# Altium integrated library Diodes.IntLib: 35 symbols
Pins are listed as number, name and electrical type; pins without a type are passive.

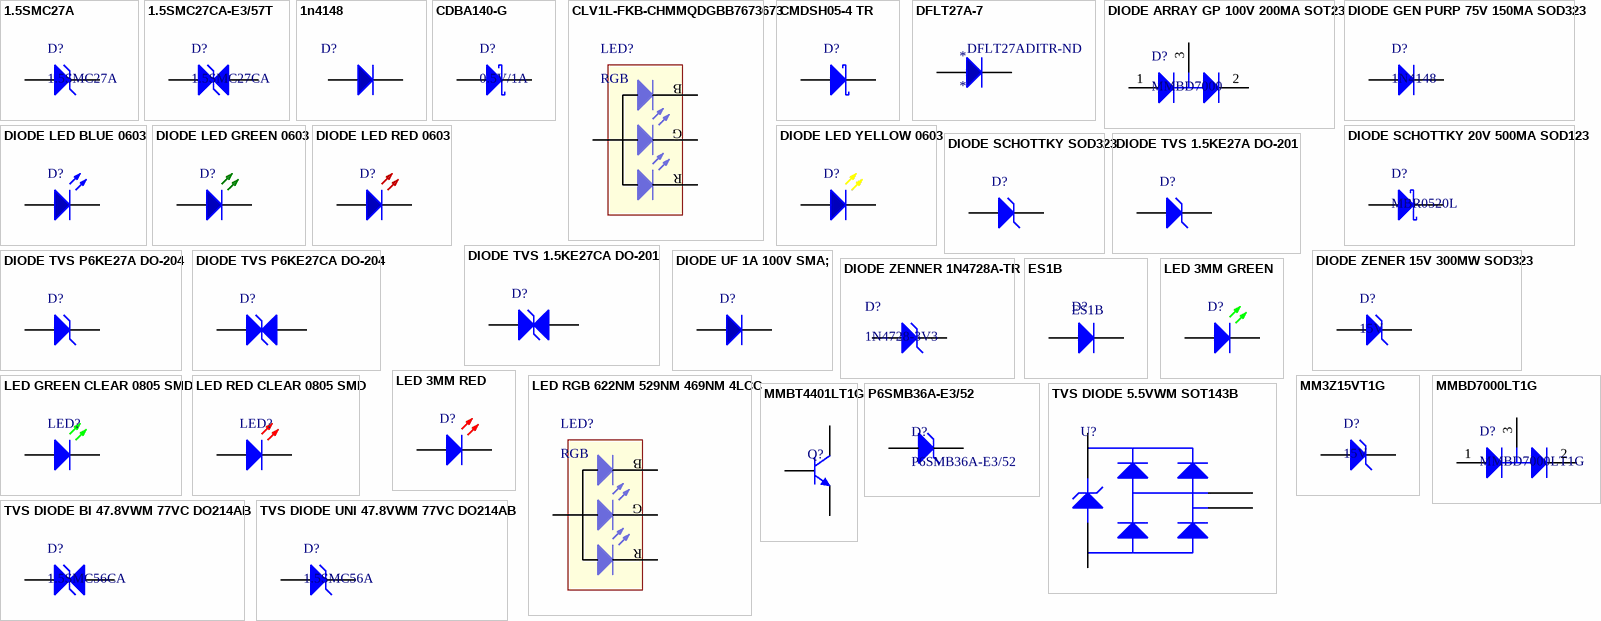
[diagram p0: symbols 1.5SMC27A to TVS DIODE UNI 47.8VWM 77VC DO214AB]

## 1.5SMC27A
designator D?
TVS DIODE 23.1VWM 37.5VC SMD; Manufacturer: Littelfuse Inc.; Type: Zener; Unidirectional Channels: 1; Voltage - Reverse Standoff (Typ): 23.1V; Voltage - Breakdown (Min): 25.7V; Voltage - Clamping (Max) @ Ipp: 37.5V; Current - Peak Pulse (10/1000µs): 40.5A; Power - Peak Pulse: 1500W (1.5kW); Power Line Protection: No; Supplier 1: Digi-Key; Manufacturer Part Number: 1.5SMC27A; RoHS: RoHS Compliant; Category: Circuit Protection; Stock 1: 5889; Pricing 1: 1=0.63, 10=0.556, 25=0.4912, 100=0.4281, 250=0.37268, 500=0.31724, 1000=0.2541 (USD); Packaging: Cut Tape (CT); Bidirectional Channels: -; Applications: General Purpose; Capacitance @ Frequency: -; Operating Temperature: -55°C ~ 150°C (TJ); Mounting Type: Surface Mount; Package / Case: DO-214AB, SMC; Supplier Device Package: DO-214AB (SMCJ); ComponentLink1URL: http://www.littelfuse.com/~/media/electronics/datasheets/tvs_diodes/littelfuse_tvs_diode_1_5smc_datasheet.pdf.pdf; ComponentLink1Description: http://www.littelfuse.com/~/media/electronics/datasheets/tvs_diodes/littelfuse_tvs_diode_1_5smc_datasheet.pdf.pdf; Supplier Part Number 1: 1.5SMC27ACT-ND
footprint DO-214AB (SMC) (DO-214AB)
pins: 1 A, 2 K

## 1.5SMC27CA-E3/57T
designator D?, comment 1.5SMC27CA
TVS DIODE 23.1VWM 37.5VC DO214AB; Manufacturer: Vishay Semiconductor Diodes Division; Manufacturer Part Number: 1.5SMC27CA-E3/57T; Type: Zener; Bidirectional Channels: 1; Voltage - Reverse Standoff (Typ): 23.1V; Voltage - Breakdown (Min): 25.7V; Voltage - Clamping (Max) @ Ipp: 37.5V; Current - Peak Pulse (10/1000µs): 40A; Power - Peak Pulse: 1500W (1.5kW); Power Line Protection: No; Supplier 1: Digi-Key; RoHS: RoHS Compliant; Category: Circuit Protection; Stock 1: 1668; Pricing 1: 1=0.62, 10=0.544, 25=0.5108, 100=0.4169, 250=0.38728 (USD); Packaging: Cut Tape (CT); Unidirectional Channels: -; Applications: General Purpose; Capacitance @ Frequency: -; Operating Temperature: -65°C ~ 150°C (TJ); Mounting Type: Surface Mount; Package / Case: DO-214AB, SMC; Supplier Device Package: DO-214AB (SMCJ); ComponentLink1URL: http://www.vishay.com/docs/88303/15smcseries.pdf; ComponentLink1Description: http://www.vishay.com/docs/88303/15smcseries.pdf; Supplier Part Number 1: 1.5SMC27CA-E3/57TGICT-ND
footprint DO-214AB_BIDIR (SMC) (DO-214AB)
pins: 1 A, 2 K

## 1n4148
designator D?  (value not drawn)
DIODE GEN PURP 75V 150MA SOD123; Manufacturer: Vishay Semiconductor Diodes Division; Manufacturer Part Number: 1N4148W-E3-08; Diode Type: Standard; Voltage - Forward (Vf) (Max) @ If: 1.2V @ 100mA; Speed: Small Signal =< 200mA (Io), Any Speed; Reverse Recovery Time (trr): 4ns; Current - Reverse Leakage @ Vr: 100µA @ 100V; Capacitance @ Vr, F: 4pF @ 0V, 1MHz; Supplier 1: Digi-Key; RoHS: RoHS Compliant; Category: Discrete Semiconductor Products; Stock 1: 32600; Pricing 1: 1=0.23, 10=0.188, 25=0.1576, 100=0.0998, 250=0.07704, 500=0.06566, 1000=0.04465 (USD); Packaging: Cut Tape (CT); Part Status: Active; Voltage - DC Reverse (Vr) (Max): 75V; Current - Average Rectified (Io): 150mA; Mounting Type: Surface Mount; Package / Case: SOD-123; Supplier Device Package: SOD-123; Operating Temperature - Junction: 150°C (Max); ComponentLink1URL: http://www.vishay.com/docs/85748/1n4148w.pdf; ComponentLink1Description: http://www.vishay.com/docs/85748/1n4148w.pdf; Supplier Part Number 1: 1N4148W-E3-08CT-ND
footprint SOD-123
pins: 1, 2

## CDBA140-G
designator D?, comment 0.5V/1A
DIODE SCHOTTKY 40V 1A DO214AC; Manufacturer: Comchip Technology; Manufacturer Part Number: CDBA140-G; Voltage - Forward (Vf) (Max) @ If: 500mV @ 1A; Speed: Fast Recovery =< 500ns, > 200mA (Io); Current - Reverse Leakage @ Vr: 500µA @ 40V; Supplier 1: Digi-Key; RoHS: RoHS Compliant; Category: Discrete Semiconductor Products; Stock 1: 130852; Pricing 1: 1=0.37, 10=0.335, 25=0.2412, 100=0.1875, 250=0.11784, 500=0.10042, 1000=0.06829, 2500=0.0616 (USD); Packaging: Digi-Reel®; Diode Type: Schottky; Voltage - DC Reverse (Vr) (Max): 40V; Current - Average Rectified (Io): 1A; Reverse Recovery Time (trr): -; Capacitance @ Vr, F: -; Mounting Type: Surface Mount; Package / Case: DO-214AC, SMA; Supplier Device Package: DO-214AC (SMA); Operating Temperature - Junction: -65°C ~ 125°C; ComponentLink1URL: http://www.comchiptech.com/cms/UserFiles/CDBA120-G%20Thru934256.%20CDBA1100-G%20RevC.pdf; ComponentLink1Description: http://www.comchiptech.com/cms/UserFiles/CDBA120-G%20Thru934256.%20CDBA1100-G%20RevC.pdf; Supplier Part Number 1: 641-1015-6-ND
footprint DO-214AC (SMA)
pins: 1 A, 2 K

## CLV1L-FKB-CHMMQDGBB7673673
designator LED?, comment RGB
LED RGB 622NM 529NM 469NM 4LCC; Manufacturer: Cree Inc.; Manufacturer Part Number: CLV1L-FKB-CHMMQDGBB7673673; Color: Red, Green, Blue (RGB); Millicandela Rating: 628mcd Red, 1255mcd Green, 248mcd Blue; Lens Style/Size: Round with Flat Top; Voltage - Forward (Vf) (Typ): 2V Red, 3.2V Green, 3.2V Blue; Current - Test: 20mA Red, 15mA Green, 15mA Blue; Wavelength - Dominant: 622nm Red, 529nm Green, 469nm Blue; Supplier 1: Digi-Key; RoHS: RoHS Compliant; Category: Optoelectronics; Stock 1: 0; Pricing 1: 2000=0.185 (USD); Packaging: Tape & Reel (TR); Lens Color: -; Lens Transparency: -; Viewing Angle: -; Mounting Type: Surface Mount; Wavelength - Peak: -; Features: -; Package / Case: 4-LCC (J-Lead); Supplier Device Package: 4-PLCC; Size / Dimension: 3.20mm L x 2.80mm W; Height (Max): 2.10mm; ComponentLink1URL: http://www.cree.com/~/media/Files/Cree/LED-Components-and-Modules/HB/Data-Sheets/CLV1L-FKB-1238.pdf; ComponentLink1Description: http://www.cree.com/~/media/Files/Cree/LED-Components-and-Modules/HB/Data-Sheets/CLV1L-FKB-1238.pdf; Supplier Part Number 1: CLV1L-FKB-CHMMQDGBB7673673-ND
footprint PLCC-4
pins: 1 A, 2 R-, 3 G-, 4 B-
text: B; G; R

## CMDSH05-4 TR
designator D?  (value not drawn)
Schottky Diodes & Rectifiers 40V Low Vf Schottky 500mA If 250mW; Manufacturer: Central Semiconductor; Ifsm - Forward Surge Current: 10 A; Tj - Operating Junction Temperature: - 65 C to + 150 C; Vf - Forward Voltage: 0.47 V; Product Status: New Product; Value: 0.5A/40V; Supplier 1: Mouser; Manufacturer Part Number: CMDSH05-4 TR; RoHS: RoHS Compliant; Category: Schottky Diodes & Rectifiers; Stock 1: 6344; Pricing 1: 1=0.564, 10=0.483, 100=0.254, 1000=0.227, 3000=0.193, 9000=0.181, 24000=0.171, 45000=0.168, 99000=0.160 (AUD); Package / Case: SOD-323; Packaging: Reel; Product: Schottky Diodes; Series: CMDSH05; Technology: Si; Brand: Central Semiconductor; Mounting Style: SMD/SMT; If - Forward Current: 500 mA; Maximum Operating Temperature: + 150 C; Minimum Operating Temperature: - 65 C; Pd - Power Dissipation: 250 mW; Tradename: Supermini; Vrrm - Repetitive Reverse Voltage: 40 V; RoHS - Mouser: Y; Minimum Order Quantity: 1; Reeling: True; ComponentLink1URL: http://www.mouser.com/ds/2/68/CMDSH05-4-370554.pdf; ComponentLink1Description: http://www.mouser.com/ds/2/68/CMDSH05-4-370554.pdf; Supplier Part Number 1: 610-CMDSH05-4TR
footprint SOD323
pins: 1 A, 2 K

## DFLT27A-7
designator *  Supplier Part Number 1: DFLT27ADITR-ND
TVS DIODE 27VWM POWERDI123; Manufacturer: Diodes Incorporated; Manufacturer Part Number: DFLT27A-7; Voltage - Reverse Standoff (Typ): 27V; Voltage - Breakdown (Min): 30V; Voltage - Clamping (Max) @ Ipp: 43.7V; Current - Peak Pulse (10/1000µs): 5.15A; Power - Peak Pulse: 225W; Power Line Protection: No; Supplier 1: Digi-Key; RoHS: RoHS Compliant; Category: Circuit Protection; Stock 1: 15000; Pricing 1: 3000=0.2046, 6000=0.1914, 15000=0.1782, 30000=0.16896 (USD); Packaging: Tape & Reel (TR); Part Status: Active; Type: Zener; Applications: Automotive; Capacitance @ Frequency: -; Operating Temperature: -65°C ~ 150°C (TJ); Mounting Type: Surface Mount; Package / Case: POWERDI®123; Supplier Device Package: PowerDI™ 123; ComponentLink1URL: https://www.diodes.com/assets/Datasheets/ds30581.pdf; ComponentLink1Description: https://www.diodes.com/assets/Datasheets/ds30581.pdf
footprint SOD-123
pins: 1, 2

## DIODE ARRAY GP 100V 200MA SOT23
designator D?, comment MMBD7000
DIODE ARRAY GP 100V 200MA SOT23; Manufacturer: ON Semiconductor; Manufacturer Part Number: MMBD7000LT1G; Diode Configuration: 1 Pair Series Connection; Diode Type: Standard; Current - Average Rectified (Io) (per Diode): 200mA (DC); Voltage - Forward (Vf) (Max) @ If: 1.1V @ 100mA; Speed: Small Signal =< 200mA (Io), Any Speed; Reverse Recovery Time (trr): 4ns; Current - Reverse Leakage @ Vr: 3µA @ 100V; Supplier 1: Digi-Key; RoHS: RoHS Compliant; Category: Discrete Semiconductor Products; Stock 1: 116635; Pricing 1: 1=0.13, 10=0.115, 100=0.0626, 500=0.0385, 1000=0.02627 (USD); Packaging: Cut Tape (CT); Voltage - DC Reverse (Vr) (Max): 100V; Mounting Type: Surface Mount; Package / Case: TO-236-3, SC-59, SOT-23-3; Supplier Device Package: SOT-23-3 (TO-236); ComponentLink1URL: http://www.onsemi.com/pub_link/Collateral/MMBD7000LT1-D.PDF; ComponentLink1Description: http://www.onsemi.com/pub_link/Collateral/MMBD7000LT1-D.PDF; Supplier Part Number 1: MMBD7000LT1GOSCT-ND
footprint SOT23-3 N (SOT23, 3-Leads, Body 2.9x1.3mm, Pitch 0.95mm, Lead Span 2.5mm, IPC Medium Density)
pins: 1 A, 2 K, 3 K/A

## DIODE GEN PURP 75V 150MA SOD323
designator D?, comment 1N4148
DIODE GEN PURP 75V 150MA SOD323; Manufacturer: Micro Commercial Co; Manufacturer Part Number: 1N4148WX-TP; Diode Type: Standard; Voltage - Forward (Vf) (Max) @ If: 1V @ 50mA; Speed: Small Signal =< 200mA (Io), Any Speed; Reverse Recovery Time (trr): 4ns; Current - Reverse Leakage @ Vr: 5µA @ 75V; Supplier 1: Digi-Key; RoHS: RoHS Compliant; Category: Discrete Semiconductor Products; Stock 1: 432445; Pricing 1: 1=0.14, 10=0.125, 25=0.1132, 100=0.0815, 250=0.048, 500=0.03986, 1000=0.02718 (USD); Packaging: Cut Tape (CT); Part Status: Active; Voltage - DC Reverse (Vr) (Max): 75V; Current - Average Rectified (Io): 150mA; Capacitance @ Vr, F: -; Mounting Type: Surface Mount; Package / Case: SC-76, SOD-323; Supplier Device Package: SOD-323; Operating Temperature - Junction: -55°C ~ 150°C; ComponentLink1URL: http://www.mccsemi.com/up_pdf/1N4148WX(SOD323).pdf; ComponentLink1Description: http://www.mccsemi.com/up_pdf/1N4148WX(SOD323).pdf; Supplier Part Number 1: 1N4148WXTPMSCT-ND
footprint SOD323 N (SODFL, 2-Leads, Body 1,25x2,50mm, IPC Medium Density)
pins: 1 A, 2 K

## DIODE LED BLUE 0603
designator D?  (value not drawn)
LED BLUE CLEAR 0603 SMD; Manufacturer: Wurth Electronics Inc; Manufacturer Part Number: 150060BS75000; Lens Color: Colorless; Millicandela Rating: 145mcd; Lens Style/Size: Rectangle with Flat Top, 1.10mm x 0.70mm; Voltage - Forward (Vf) (Typ): 3.2V; Current - Test: 20mA; Viewing Angle: 140°; Wavelength - Dominant: 470nm; Wavelength - Peak: 465nm; Supplier 1: Digi-Key; RoHS: RoHS Compliant; Category: Optoelectronics; Stock 1: 14835; Pricing 1: 1=0.26, 50=0.2276, 100=0.208, 500=0.1885, 1000=0.1755 (USD); Packaging: Cut Tape (CT); Color: Blue; Lens Transparency: Clear; Mounting Type: Surface Mount; Features: -; Package / Case: 0603 (1608 Metric); Supplier Device Package: 0603; Size / Dimension: 1.60mm L x 0.80mm W; Height (Max): 0.80mm; ComponentLink1URL: http://katalog.we-online.de/led/datasheet/150060BS75000.pdf; ComponentLink1Description: http://katalog.we-online.de/led/datasheet/150060BS75000.pdf; Supplier Part Number 1: 732-4966-1-ND
footprint LED-0603-BLUE
pins: 1, 2

## DIODE LED GREEN 0603
designator D?  (value not drawn)
LED GREEN CLEAR 0603 SMD; Manufacturer: Wurth Electronics Inc; Manufacturer Part Number: 150060GS75000; Lens Color: Colorless; Millicandela Rating: 430mcd; Lens Style/Size: Rectangle with Flat Top, 1.10mm x 0.70mm; Voltage - Forward (Vf) (Typ): 3.2V; Current - Test: 20mA; Viewing Angle: 140°; Wavelength - Dominant: 520nm; Wavelength - Peak: 515nm; Supplier 1: Digi-Key; RoHS: RoHS Compliant; Category: Optoelectronics; Stock 1: 18581; Pricing 1: 1=0.24, 50=0.21, 100=0.192, 500=0.174, 1000=0.162 (USD); Packaging: Digi-Reel®; Color: Green; Lens Transparency: Clear; Mounting Type: Surface Mount; Features: -; Package / Case: 0603 (1608 Metric); Supplier Device Package: 0603; Size / Dimension: 1.60mm L x 0.80mm W; Height (Max): 0.80mm; ComponentLink1URL: http://katalog.we-online.de/led/datasheet/150060GS75000.pdf; ComponentLink1Description: http://katalog.we-online.de/led/datasheet/150060GS75000.pdf; Supplier Part Number 1: 732-4971-6-ND
footprint LED-0603-GREEN
pins: 1, 2

## DIODE LED RED 0603
designator D?  (value not drawn)
LED RED CLEAR 0603 SMD; Manufacturer: Wurth Electronics Inc; Manufacturer Part Number: 150060RS75000; Lens Color: Colorless; Millicandela Rating: 250mcd; Lens Style/Size: Rectangle with Flat Top, 1.10mm x 0.70mm; Voltage - Forward (Vf) (Typ): 2V; Current - Test: 20mA; Viewing Angle: 140°; Wavelength - Dominant: 625nm; Wavelength - Peak: 630nm; Supplier 1: Digi-Key; RoHS: RoHS Compliant; Category: Optoelectronics; Stock 1: 22583; Pricing 1: 1=0.24, 50=0.21, 100=0.192, 500=0.174, 1000=0.162 (USD); Packaging: Cut Tape (CT); Color: Red; Lens Transparency: Clear; Mounting Type: Surface Mount; Features: -; Package / Case: 0603 (1608 Metric); Supplier Device Package: 0603; Size / Dimension: 1.60mm L x 0.80mm W; Height (Max): 0.80mm; ComponentLink1URL: http://katalog.we-online.de/led/datasheet/150060RS75000.pdf; ComponentLink1Description: http://katalog.we-online.de/led/datasheet/150060RS75000.pdf; Supplier Part Number 1: 732-4978-1-ND
footprint LED-0603-RED
pins: 1, 2

## DIODE LED YELLOW 0603
designator D?  (value not drawn)
LED YELLOW CLEAR 0603 SMD; Manufacturer: Wurth Electronics Inc; Manufacturer Part Number: 150060YS75000; Lens Color: Colorless; Millicandela Rating: 120mcd; Lens Style/Size: Rectangle with Flat Top, 1.10mm x 0.70mm; Voltage - Forward (Vf) (Typ): 2V; Current - Test: 20mA; Viewing Angle: 140°; Wavelength - Dominant: 590nm; Wavelength - Peak: 595nm; Supplier 1: Digi-Key; RoHS: RoHS Compliant; Category: Optoelectronics; Stock 1: 17900; Pricing 1: 1=0.24, 50=0.21, 100=0.192, 500=0.174, 1000=0.162 (USD); Packaging: Cut Tape (CT); Color: Yellow; Lens Transparency: Clear; Mounting Type: Surface Mount; Features: -; Package / Case: 0603 (1608 Metric); Supplier Device Package: 0603; Size / Dimension: 1.60mm L x 0.80mm W; Height (Max): 0.80mm; ComponentLink1URL: http://katalog.we-online.de/led/datasheet/150060YS75000.pdf; ComponentLink1Description: http://katalog.we-online.de/led/datasheet/150060YS75000.pdf; Supplier Part Number 1: 732-4981-1-ND
footprint LED-0603-YELLOW
pins: 1, 2

## DIODE SCHOTTKY 20V 500MA SOD123
designator D?, comment MBR0520L
DIODE SCHOTTKY 20V 500MA SOD123; Manufacturer: Fairchild Semiconductor; Rad Hard: No; Type: Schottky Diode; Configuration: Single; Peak Average Forward Current: 0.5 A; Peak Reverse Current: 250 uA; Peak Forward Voltage: 0.385 V; Peak Non-Repetitive Surge Current: 5.5 A; Supplier 1: Digikey; Manufacturer Part Number: MBR0520L; Stock 1: 138987; Pricing 1: 1=0.34, 10=0.281, 100=0.1491, 500=0.0981, 1000=0.0667 (USD); Packaging: Tape & Reel; Package: 2SOD-123; Peak Reverse Repetitive Voltage: 20 V; Operating Temperature: -65 to 125 °C; Mounting: Surface Mount; Category: Rectifier; ComponentLink1URL: https://datasheet.ciiva.com/5739/1684450-5739282.pdf; ComponentLink1Description: https://datasheet.ciiva.com/5739/1684450-5739282.pdf; ComponentLink2URL: https://datasheet.ciiva.com/4714/mbr0520l-67539-4714709.pdf; ComponentLink2Description: https://datasheet.ciiva.com/4714/mbr0520l-67539-4714709.pdf; ComponentLink3URL: https://datasheet.ciiva.com/910/mbr0520l-910540.pdf; ComponentLink3Description: https://datasheet.ciiva.com/910/mbr0520l-910540.pdf; ComponentLink4URL: https://datasheet.ciiva.com/8303/mbr0520l-8303788.pdf; ComponentLink4Description: https://datasheet.ciiva.com/8303/mbr0520l-8303788.pdf; ComponentLink5URL: https://datasheet.ciiva.com/26230/mbr0520l-26230988.pdf; ComponentLink5Description: https://datasheet.ciiva.com/26230/mbr0520l-26230988.pdf; ComponentLink6URL: https://datasheet.ciiva.com/34301/871594-34301628.pdf; ComponentLink6Description: https://datasheet.ciiva.com/34301/871594-34301628.pdf; ComponentLink7URL: https://datasheet.ciiva.com/910/mbr0520l-910541.pdf; ComponentLink7Description: https://datasheet.ciiva.com/910/mbr0520l-910541.pdf; ComponentLink8URL: https://datasheet.ciiva.com/16985/mbr0520l-16985725.pdf; ComponentLink8Description: https://datasheet.ciiva.com/16985/mbr0520l-16985725.pdf; ComponentLink9URL: https://datasheet.ciiva.com/910/mbr0520l-910542.pdf; ComponentLink9Description: https://datasheet.ciiva.com/910/mbr0520l-910542.pdf; ComponentLink10URL: https://datasheet.ciiva.com/7965/48015-7965151.pdf; ComponentLink10Description: https://datasheet.ciiva.com/7965/48015-7965151.pdf; Supplier Part Number 1: MBR0520LCT-ND
footprint SOD123 M (SODFL, 2-Leads, Body 1,60x3,75mm, IPC Low Density)
pins: 1 K, 2 A

## DIODE SCHOTTKY SOD323
designator D?  (value not drawn)
DIODE SCHOTTKY 40V 30MA SOD323; Manufacturer: ON Semiconductor; Manufacturer Part Number: NSVRB751V40T1G; Current - Average Rectified (Io): 30mA (DC); Voltage - Forward (Vf) (Max) @ If: 370mV @ 1mA; Speed: Small Signal =< 200mA (Io), Any Speed; Current - Reverse Leakage @ Vr: 500nA @ 30V; Capacitance @ Vr, F: 2.5pF @ 1V, 1MHz; Supplier 1: Digi-Key; RoHS: RoHS Compliant; Category: Discrete Semiconductor Products; Stock 1: 4486; Pricing 1: 1=0.43, 10=0.346, 100=0.236, 500=0.1766, 1000=0.13228 (USD); Packaging: Cut Tape (CT); Diode Type: Schottky; Voltage - DC Reverse (Vr) (Max): 40V; Reverse Recovery Time (trr): -; Mounting Type: Surface Mount; Package / Case: SC-76, SOD-323; Supplier Device Package: SOD-323; Operating Temperature - Junction: -55°C ~ 150°C; ComponentLink1URL: http://www.onsemi.com/pub_link/Collateral/RB751V40T1-D.PDF; ComponentLink1Description: http://www.onsemi.com/pub_link/Collateral/RB751V40T1-D.PDF; Supplier Part Number 1: NSVRB751V40T1GOSCT-ND
footprint SOD-323
pins: 1, 2

## DIODE TVS 1.5KE27A DO-201
designator D?  (value not drawn)
TVS DIODE 23.1VWM 48.3VC DO201; Manufacturer: STMicroelectronics; Manufacturer Part Number: 1.5KE27A; Type: Zener; Unidirectional Channels: 1; Voltage - Reverse Standoff (Typ): 23.1V; Voltage - Breakdown (Min): 25.7V; Voltage - Clamping (Max) @ Ipp: 48.3V; Current - Peak Pulse (10/1000µs): 207A (8/20µs); Power - Peak Pulse: 1500W (1.5kW); Power Line Protection: No; Capacitance @ Frequency: 3200pF @ 1MHz; Supplier 1: Digi-Key; RoHS: RoHS Compliant; Category: Circuit Protection; Stock 1: 2247; Pricing 1: 1=0.63, 10=0.538, 100=0.4017 (USD); Packaging: Cut Tape (CT); Bidirectional Channels: -; Applications: General Purpose; Operating Temperature: -; Mounting Type: Through Hole; Package / Case: DO-201AA, DO-27, Axial; Supplier Device Package: DO-201; ComponentLink1URL: http://www.st.com/content/ccc/resource/technical/document/datasheet/03/7a/4e/3b/96/c3/4e/37/CD00000663.pdf/files/CD00000663.pdf/jcr:content/translations/en.CD00000663.pdf; ComponentLink1Description: http://www.st.com/content/ccc/resource/technical/document/datasheet/03/7a/4e/3b/96/c3/4e/37/CD00000663.pdf/files/CD00000663.pdf/jcr:content/translations/en.CD00000663.pdf; Supplier Part Number 1: 497-12739-1-ND
footprint DO-201
pins: 1, 2

## DIODE TVS 1.5KE27CA DO-201
designator D?  (value not drawn)
TVS DIODE 23.1VWM 37.5VC AXIAL; Manufacturer: Littelfuse Inc.; Manufacturer Part Number: 1.5KE27CA; Type: Zener; Bidirectional Channels: 1; Voltage - Reverse Standoff (Typ): 23.1V; Voltage - Breakdown (Min): 25.7V; Voltage - Clamping (Max) @ Ipp: 37.5V; Current - Peak Pulse (10/1000µs): 40.5A; Power - Peak Pulse: 1500W (1.5kW); Power Line Protection: No; Supplier 1: Digi-Key; RoHS: RoHS Compliant; Category: Circuit Protection; Stock 1: 1648; Pricing 1: 1=0.65, 10=0.567, 25=0.5008, 100=0.4365, 250=0.37996, 500=0.32342 (USD); Packaging: Cut Tape (CT); Unidirectional Channels: -; Applications: General Purpose; Capacitance @ Frequency: -; Operating Temperature: -55°C ~ 175°C (TJ); Mounting Type: Through Hole; Package / Case: DO-201AA, DO-27, Axial; Supplier Device Package: DO-201; ComponentLink1URL: http://www.littelfuse.com/~/media/electronics/datasheets/tvs_diodes/littelfuse_tvs_diode_1_5ke_datasheet.pdf.pdf; ComponentLink1Description: http://www.littelfuse.com/~/media/electronics/datasheets/tvs_diodes/littelfuse_tvs_diode_1_5ke_datasheet.pdf.pdf; Supplier Part Number 1: 1.5KE27CALFCT-ND
footprint DO-201
pins: 1, 2

## DIODE TVS P6KE27A DO-204
designator D?  (value not drawn)
TVS DIODE 23.1VWM 48.3VC DO15; Manufacturer: STMicroelectronics; Manufacturer Part Number: P6KE27A; Type: Zener; Unidirectional Channels: 1; Voltage - Reverse Standoff (Typ): 23.1V; Voltage - Breakdown (Min): 25.7V; Voltage - Clamping (Max) @ Ipp: 48.3V; Current - Peak Pulse (10/1000µs): 83A (8/20µs); Power - Peak Pulse: 600W; Power Line Protection: No; Capacitance @ Frequency: 1150pF @ 1MHz; Supplier 1: Digi-Key; RoHS: RoHS Compliant; Category: Circuit Protection; Stock 1: 5491; Pricing 1: 1=0.51, 10=0.416, 100=0.2838, 500=0.21242 (USD); Packaging: Cut Tape (CT); Bidirectional Channels: -; Applications: General Purpose; Operating Temperature: -; Mounting Type: Through Hole; Package / Case: DO-204AC, DO-15, Axial; Supplier Device Package: DO-15; ComponentLink1URL: http://www.st.com/web/en/resource/technical/document/datasheet/CD00000720.pdf; ComponentLink1Description: http://www.st.com/web/en/resource/technical/document/datasheet/CD00000720.pdf; Supplier Part Number 1: 497-11386-1-ND
footprint DO-204
pins: 1, 2

## DIODE TVS P6KE27CA DO-204
designator D?  (value not drawn)
TVS DIODE 23.1VWM 48.3VC DO15; Manufacturer: STMicroelectronics; Manufacturer Part Number: P6KE27CA; Type: Zener; Bidirectional Channels: 1; Voltage - Reverse Standoff (Typ): 23.1V; Voltage - Breakdown (Min): 25.7V; Voltage - Clamping (Max) @ Ipp: 48.3V; Current - Peak Pulse (10/1000µs): 83A (8/20µs); Power - Peak Pulse: 600W; Power Line Protection: No; Capacitance @ Frequency: 575pF @ 1MHz; Supplier 1: Digi-Key; RoHS: RoHS Compliant; Category: Circuit Protection; Stock 1: 4106; Pricing 1: 1=0.51, 10=0.416, 100=0.2838, 500=0.21242 (USD); Packaging: Cut Tape (CT); Unidirectional Channels: -; Applications: General Purpose; Operating Temperature: -; Mounting Type: Through Hole; Package / Case: DO-204AC, DO-15, Axial; Supplier Device Package: DO-15; ComponentLink1URL: http://www.st.com/web/en/resource/technical/document/datasheet/CD00000720.pdf; ComponentLink1Description: http://www.st.com/web/en/resource/technical/document/datasheet/CD00000720.pdf; Supplier Part Number 1: 497-11387-1-ND
footprint DO-204
pins: 1, 2

## DIODE UF 1A 100V SMA;
designator D?  (value not drawn)
DIODE GEN PURP 100V 1A DO220AA; Manufacturer: Vishay Semiconductor Diodes Division; Manufacturer Part Number: ES1PB-M3/84A; Diode Type: Standard; Voltage - Forward (Vf) (Max) @ If: 920mV @ 1A; Speed: Fast Recovery =< 500ns, > 200mA (Io); Reverse Recovery Time (trr): 25ns; Current - Reverse Leakage @ Vr: 5µA @ 100V; Capacitance @ Vr, F: 10pF @ 4V, 1MHz; Supplier 1: Digi-Key; RoHS: RoHS Compliant; Category: Discrete Semiconductor Products; Stock 1: 8556; Pricing 1: 1=0.44, 10=0.373, 25=0.3484, 100=0.2786, 250=0.25872, 500=0.2189, 1000=0.16915 (USD); Packaging: Cut Tape (CT); Voltage - DC Reverse (Vr) (Max): 100V; Current - Average Rectified (Io): 1A; Mounting Type: Surface Mount; Package / Case: DO-220AA; Supplier Device Package: DO-220AA (SMP); Operating Temperature - Junction: -55°C ~ 150°C; ComponentLink1URL: http://www.vishay.com/docs/88918/es1pb.pdf; ComponentLink1Description: http://www.vishay.com/docs/88918/es1pb.pdf; Supplier Part Number 1: ES1PB-M3/84AGICT-ND
footprint DO-220AA
pins: 1, 2

## DIODE ZENER 15V 300MW SOD323
designator D?, comment 15V
DIODE ZENER 15V 300MW SOD323; Manufacturer: ON Semiconductor; Manufacturer Part Number: MM3Z15VT1G; Tolerance: ±5%; Impedance (Max) (Zzt): 30 Ohm; Current - Reverse Leakage @ Vr: 50nA @ 10.5V; Voltage - Forward (Vf) (Max) @ If: 900mV @ 10mA; Supplier 1: Digi-Key; RoHS: RoHS Compliant; Category: Discrete Semiconductor Products; Stock 1: 28790; Pricing 1: 1=0.14, 10=0.131, 100=0.0715, 500=0.04394, 1000=0.02997 (USD); Packaging: Cut Tape (CT); Voltage - Zener (Nom) (Vz): 15V; Power - Max: 300mW; Operating Temperature: -65°C ~ 150°C; Mounting Type: Surface Mount; Package / Case: SC-76, SOD-323; Supplier Device Package: SOD-323; ComponentLink1URL: http://www.onsemi.com/pub_link/Collateral/MM3Z2V4T1-D.PDF; ComponentLink1Description: http://www.onsemi.com/pub_link/Collateral/MM3Z2V4T1-D.PDF; Supplier Part Number 1: MM3Z15VT1GOSCT-ND
footprint SOD323
pins: 1 A, 2 K

## DIODE ZENNER 1N4728A-TR
designator D?, comment 1N4728-3V3
DIODE ZENER 3.3V 1.3W DO41; Manufacturer: Vishay Semiconductor Diodes Division; Manufacturer Part Number: 1N4728A-TR; Tolerance: ±5%; Current - Reverse Leakage @ Vr: 100µA @ 1V; Voltage - Forward (Vf) (Max) @ If: 1.2V @ 200mA; Supplier 1: Digi-Key; RoHS: RoHS Compliant; Category: Discrete Semiconductor Products; Stock 1: 30000; Pricing 1: 5000=0.048, 10000=0.0408, 25000=0.0384, 50000=0.036, 125000=0.0312 (USD); Packaging: Tape & Reel (TR); Part Status: Active; Voltage - Zener (Nom) (Vz): 3.3V; Power - Max: 1.3W; Impedance (Max) (Zzt): -; Operating Temperature: -; Mounting Type: Through Hole; Package / Case: DO-204AL, DO-41, Axial; Supplier Device Package: DO-41; ComponentLink1URL: http://www.vishay.com/docs/85816/1n4728a.pdf; ComponentLink1Description: http://www.vishay.com/docs/85816/1n4728a.pdf
footprint DO-41 (Diode, thru-hole)
pins: 1, 2

## ES1B
designator D?
Rectifiers 1.0a Rectifier UF Recovery; Manufacturer: Fairchild Semiconductor; Configuration: Single; Forward Continuous Current: 1 A; Max Surge Current: 30 A; Power Dissipation: 1.47 W; Recovery Time: 15 ns; Reverse Voltage: 100 V; Forward Voltage Drop: 0.92 V; Reverse Current IR: 5 uA; Supplier 1: Mouser; Manufacturer Part Number: ES1B; RoHS: RoHS Compliant By Exemption; Category: Rectifiers; Stock 1: 17403; Pricing 1: 1=0.683, 10=0.389, 100=0.166, 1000=0.108, 2500=0.097, 7500=0.086, 22500=0.082, 45000=0.071, 97500=0.068 (AUD); Package / Case: SMA; Packaging: Reel; Product: Ultra Fast Recovery Rectifiers; Series: ES1B; Brand: Fairchild Semiconductor; Mounting Style: SMD/SMT; Maximum Operating Temperature: + 150 C; Minimum Operating Temperature: - 50 C; Standard Pack Qty: 7500; RoHS - Mouser: E; Minimum Order Quantity: 1; Reeling: True; ComponentLink1URL: http://www.mouser.com/ds/2/149/ES1B-187537.pdf; ComponentLink1Description: http://www.mouser.com/ds/2/149/ES1B-187537.pdf; Supplier Part Number 1: 512-ES1B; Value: ES1B
footprint SMA
pins: 1 A, 2 K

## LED 3MM GREEN
designator D?  (value not drawn)
Manufacturer: Paralight; Manufacturer Part Number: IMP1019; Wavelength Typ: 568; Forward Voltage: 2.2; Forward Current If: 20; LED Mounting: Through Hole; Lens Shape: Round; Viewing Angle: 60°; SVHC: No SVHC (15-Jun-2015); External Diameter: 2.9; External Length / Height: 4.6; Forward Voltage VF Max: 2.5; LED / Lamp Size: 3mm / T-1; LED Type: Standard; Lead Cross-section Depth: 0.5; Lead Length: 27; Luminous Intensity @ If Min: 8; No. of Pins: 2; PIV Max: 5; Peak Forward Current: 140; Voltage Vf Typ: 2.2V<!--FANDB--><div class="features-and-benefits-container"><div class="features-and-benefits-description"><span class="features-benefits-value">The L-934GD is a 3mm green solid-state LED Lamp with green diffused lens. The green source device is made with gallium phosphide.</span></div><div class="features-and-benefits-list"><ul class="features-and-benefits-list-list"><li class="features-and-benefits-list-item">Low Power Consumption</li><li class="features-and-benefits-list-item">Popular T-1 Diameter Package</li><li class="features-and-benefits-list-item">General Purpose Leads</li><li class="features-and-benefits-list-item">Reliable and Rugged</li><li class="features-and-benefits-list-item">Long Life, Solid State Reliability</li></ul></div><div class="features-and-benefits-warnings"><span class="features-benefits-value">ESD sensitive device, take proper precaution while handling the device, wear anti-static suit when entering work areas with conductive machinery.</span></div><div class="features-and-benefits-applications"><ul class="features-and-benefits-value"><li class="features-and-benefits-list-item">LED Lighting</li></ul></div></div>; Supplier 1: Mult Comercial; RoHS: YES; Stock 1: 34348; Pricing 1: 1=0,15 (BRL); LED Colour: Green; Bulb Size: 3mm; Luminous Intensity: 20; Packaging: Each; MSL: -; Current If Luminous Intensity: 20; Dominant Wavelength: 568; Forward Current If Max: 20; Lead Cross-section Width: 0.5; Lead Spacing: 2.54; Luminous Intensity Typ: 20; Mounting Type: PCB Through Hole; Operating Temperature Max: 85; Operating Temperature Min: -40; Operating Temperature Range: -40°C to +85; Peak Wavelength: 568; ComponentLink1URL: http://loja.multcomercial.com.br/led-3mm-verde-difuso-l-314gd-paralight.html; ComponentLink1Description: http://loja.multcomercial.com.br/led-3mm-verde-difuso-l-314gd-paralight.html; Supplier Part Number 1: Led 3mm Verde Difuso L-314GD - Paralight
footprint LED 3MM GREEN
pins: 1 A, 2 K

## LED 3MM RED
designator D?  (value not drawn)
Manufacturer: Paralight; Manufacturer Part Number: IMP585; Wavelength Typ: 625; Forward Voltage: 2; Forward Current If: 20; Luminous Intensity: 3; LED Mounting: Through Hole; Lens Shape: Round; Viewing Angle: 60°; SVHC: No SVHC (15-Jun-2015); External Diameter: 2.9; External Length / Height: 4.6; Forward Voltage VF Max: 2.5; LED / Lamp Size: 3mm / T-1; LED Type: Standard; Lead Cross-section Depth: 0.5; Luminous Intensity @ If Min: 0.7; PIV Max: 5; Peak Forward Current: 7; Voltage Vf Typ: 2.2V<!--FANDB--><div class="features-and-benefits-container"><div class="features-and-benefits-description"><span class="features-benefits-value">The L-934LID from Kingbright is a through hole round shape high efficiency red colour LED. The device is made of gallium arsenide phosphide on gallium phosphide orange light emitting diode. This LED is widely used because of low power consumption, long life and solid state reliability.</span></div><div class="features-and-benefits-list"><ul class="features-and-benefits-list-list"><li class="features-and-benefits-list-item">Standard bulb size of T-1 (3mm)</li><li class="features-and-benefits-list-item">Reliable and rugged</li><li class="features-and-benefits-list-item">Viewing angle is 60°</li><li class="features-and-benefits-list-item">Luminous intensity of 3mcd at 2mA</li><li class="features-and-benefits-list-item">Forward voltage is 2.0V</li><li class="features-and-benefits-list-item">Forward current (If) is 20mA</li><li class="features-and-benefits-list-item">Dominant wavelength is 625nm at IF=20mA</li><li class="features-and-benefits-list-item">Peak wavelength is 627nm at IF=20; Supplier 1: Mult Comercial; RoHS: YES; Stock 1: 35260; Pricing 1: 1=0.15 (BRL); LED Colour: Red; Bulb Size: 3mm; Packaging: Each; MSL: -; Current If Luminous Intensity: 2; Dominant Wavelength: 625; Forward Current If Max: 20; Lead Cross-section Width: 0.5; Lead Spacing: 2.54; Luminous Intensity Typ: 3; Mounting Type: PCB Through Hole; No. of Pins: 2; Operating Temperature Max: 85; Operating Temperature Min: -40; Operating Temperature Range: -40°C to +85; Peak Wavelength: 625; ComponentLink1URL: http://loja.multcomercial.com.br/led-3mm-vermelho-difuso-l-314hd-paralight.html; ComponentLink1Description: http://loja.multcomercial.com.br/led-3mm-vermelho-difuso-l-314hd-paralight.html; Supplier Part Number 1: Led 3mm Vermelho Difuso L-314HD - Paralight
footprint LED 3MM RED
pins: 1 A, 2 K

## LED GREEN CLEAR 0805 SMD
designator LED?, comment Green  (value not drawn)
LED GREEN CLEAR 0805 SMD; Manufacturer: Lite-On Inc.; Manufacturer Part Number: LTST-C171KGKT; Lens Color: Colorless; Millicandela Rating: 35mcd; Lens Style/Size: Rectangle with Flat Top, 1.40mm x 1.25mm; Voltage - Forward (Vf) (Typ): 2V; Current - Test: 20mA; Viewing Angle: 130°; Wavelength - Dominant: 571nm; Wavelength - Peak: 574nm; Supplier 1: Digi-Key; RoHS: RoHS Compliant; Category: Optoelectronics; Stock 1: 350122; Pricing 1: 1=0.31, 10=0.225, 25=0.1656, 100=0.1183, 250=0.0804, 500=0.07096, 1000=0.05558 (USD); Packaging: Cut Tape (CT); Color: Green; Lens Transparency: Clear; Mounting Type: Surface Mount; Features: -; Package / Case: 0805 (2012 Metric); Supplier Device Package: *; Size / Dimension: 2.00mm L x 1.25mm W; Height (Max): 0.80mm; ComponentLink1URL: http://optoelectronics.liteon.com/upload/download/DS22-2000-118/S_110_LTST-C171KGKT.pdf; ComponentLink1Description: http://optoelectronics.liteon.com/upload/download/DS22-2000-118/S_110_LTST-C171KGKT.pdf; Supplier Part Number 1: 160-1426-1-ND
footprint LED 0805 GREEN
pins: 1 A, 2 K

## LED RED CLEAR 0805 SMD
designator LED?, comment Blue  (value not drawn)
LED RED CLEAR 0805 SMD; Manufacturer: Lite-On Inc.; Manufacturer Part Number: LTST-C171KRKT; Lens Color: Colorless; Millicandela Rating: 54mcd; Lens Style/Size: Rectangle with Flat Top, 1.40mm x 1.25mm; Voltage - Forward (Vf) (Typ): 2V; Current - Test: 20mA; Viewing Angle: 130°; Wavelength - Dominant: 631nm; Wavelength - Peak: 639nm; Supplier 1: Digi-Key; RoHS: RoHS Compliant; Category: Optoelectronics; Stock 1: 214261; Pricing 1: 1=0.31, 10=0.225, 25=0.1656, 100=0.1183, 250=0.0804, 500=0.07096, 1000=0.05558 (USD); Packaging: Cut Tape (CT); Color: Red; Lens Transparency: Clear; Mounting Type: Surface Mount; Features: -; Package / Case: 0805 (2012 Metric); Supplier Device Package: *; Size / Dimension: 2.00mm L x 1.25mm W; Height (Max): 0.80mm; ComponentLink1URL: http://optoelectronics.liteon.com/upload/download/DS22-2000-109/S_110_LTST-C171KRKT.pdf; ComponentLink1Description: http://optoelectronics.liteon.com/upload/download/DS22-2000-109/S_110_LTST-C171KRKT.pdf; Supplier Part Number 1: 160-1427-1-ND
footprint LED 0805 RED (LED 0805 GREEN)
pins: 1 A, 2 K

## LED RGB 622NM 529NM 469NM 4LCC
designator LED?, comment RGB
LED RGB 622NM 529NM 469NM 4LCC; Manufacturer: Cree Inc.; Manufacturer Part Number: CLV1L-FKB-CHMMQDGBB7673673; Color: Red, Green, Blue (RGB); Millicandela Rating: 628mcd Red, 1255mcd Green, 248mcd Blue; Lens Style/Size: Round with Flat Top; Voltage - Forward (Vf) (Typ): 2V Red, 3.2V Green, 3.2V Blue; Current - Test: 20mA Red, 15mA Green, 15mA Blue; Wavelength - Dominant: 622nm Red, 529nm Green, 469nm Blue; Supplier 1: Digi-Key; RoHS: RoHS Compliant; Category: Optoelectronics; Stock 1: 0; Pricing 1: 2000=0.185 (USD); Packaging: Tape & Reel (TR); Lens Color: -; Lens Transparency: -; Viewing Angle: -; Mounting Type: Surface Mount; Wavelength - Peak: -; Features: -; Package / Case: 4-LCC (J-Lead); Supplier Device Package: 4-PLCC; Size / Dimension: 3.20mm L x 2.80mm W; Height (Max): 2.10mm; ComponentLink1URL: http://www.cree.com/~/media/Files/Cree/LED-Components-and-Modules/HB/Data-Sheets/CLV1L-FKB-1238.pdf; ComponentLink1Description: http://www.cree.com/~/media/Files/Cree/LED-Components-and-Modules/HB/Data-Sheets/CLV1L-FKB-1238.pdf; Supplier Part Number 1: CLV1L-FKB-CHMMQDGBB7673673-ND
footprint PLCC-4
pins: 1 A, 2 R-, 3 G-, 4 B-
text: B; G; R

## MM3Z15VT1G
designator D?, comment 15V
DIODE ZENER 15V 300MW SOD323; Manufacturer: ON Semiconductor; Manufacturer Part Number: MM3Z15VT1G; Tolerance: ±5%; Impedance (Max) (Zzt): 30 Ohm; Current - Reverse Leakage @ Vr: 50nA @ 10.5V; Voltage - Forward (Vf) (Max) @ If: 900mV @ 10mA; Supplier 1: Digi-Key; RoHS: RoHS Compliant; Category: Discrete Semiconductor Products; Stock 1: 28790; Pricing 1: 1=0.14, 10=0.131, 100=0.0715, 500=0.04394, 1000=0.02997 (USD); Packaging: Cut Tape (CT); Voltage - Zener (Nom) (Vz): 15V; Power - Max: 300mW; Operating Temperature: -65°C ~ 150°C; Mounting Type: Surface Mount; Package / Case: SC-76, SOD-323; Supplier Device Package: SOD-323; ComponentLink1URL: http://www.onsemi.com/pub_link/Collateral/MM3Z2V4T1-D.PDF; ComponentLink1Description: http://www.onsemi.com/pub_link/Collateral/MM3Z2V4T1-D.PDF; Supplier Part Number 1: MM3Z15VT1GOSCT-ND
footprint SOD-323
pins: 1 A, 2 K

## MMBD7000LT1G
designator D?
DIODE ARRAY GP 100V 200MA SOT23; Manufacturer: ON Semiconductor; Diode Configuration: 1 Pair Series Connection; Diode Type: Standard; Current - Average Rectified (Io) (per Diode): 200mA (DC); Voltage - Forward (Vf) (Max) @ If: 1.1V @ 100mA; Speed: Small Signal =< 200mA (Io), Any Speed; Reverse Recovery Time (trr): 4ns; Current - Reverse Leakage @ Vr: 3µA @ 100V; Supplier 1: Digi-Key; Manufacturer Part Number: MMBD7000LT1G; RoHS: RoHS Compliant; Category: Discrete Semiconductor Products; Stock 1: 116635; Pricing 1: 1=0.13, 10=0.115, 100=0.0626, 500=0.0385, 1000=0.02627 (USD); Packaging: Cut Tape (CT); Voltage - DC Reverse (Vr) (Max): 100V; Mounting Type: Surface Mount; Package / Case: TO-236-3, SC-59, SOT-23-3; Supplier Device Package: SOT-23-3 (TO-236); ComponentLink1URL: http://www.onsemi.com/pub_link/Collateral/MMBD7000LT1-D.PDF; ComponentLink1Description: http://www.onsemi.com/pub_link/Collateral/MMBD7000LT1-D.PDF; Supplier Part Number 1: MMBD7000LT1GOSCT-ND
footprint SOT23-3_N (SOT23, 3-Leads, Body 2.9x1.3mm, Pitch 0.95mm, Lead Span 2.5mm, IPC Medium Density)
pins: 1 A, 2 K, 3 K/A

## MMBT4401LT1G
designator Q?  (value not drawn)
TRANS NPN 40V 0.6A SOT23; Manufacturer: ON Semiconductor; Current - Collector (Ic) (Max): 600mA; Vce Saturation (Max) @ Ib, Ic: 750mV @ 50mA, 500mA; DC Current Gain (hFE) (Min) @ Ic, Vce: 100 @ 150mA, 1V; Power - Max: 300mW; Frequency - Transition: 250MHz; Supplier 1: Digi-Key; Manufacturer Part Number: MMBT4401LT1G; RoHS: RoHS Compliant; Category: Discrete Semiconductor Products; Stock 1: 75580; Pricing 1: 1=0.11, 10=0.097, 100=0.0531, 500=0.03262, 1000=0.02225 (USD); Packaging: Cut Tape (CT); Part Status: Active; Transistor Type: NPN; Voltage - Collector Emitter Breakdown (Max): 40V; Current - Collector Cutoff (Max): -; Mounting Type: Surface Mount; Package / Case: TO-236-3, SC-59, SOT-23-3; Supplier Device Package: SOT-23-3 (TO-236); ComponentLink1URL: http://www.onsemi.com/pub_link/Collateral/MMBT4401LT1-D.PDF; ComponentLink1Description: http://www.onsemi.com/pub_link/Collateral/MMBT4401LT1-D.PDF; Supplier Part Number 1: MMBT4401LT1GOSCT-ND
footprint SOT-23-3
pins: 1 B, 2 E, 3 C

## P6SMB36A-E3/52
designator D?
TVS DIODE 30.8VWM 49.9VC SMB; Manufacturer: Vishay Semiconductor Diodes Division; Type: Zener; Unidirectional Channels: 1; Voltage - Reverse Standoff (Typ): 30.8V; Voltage - Breakdown (Min): 34.2V; Voltage - Clamping (Max) @ Ipp: 49.9V; Current - Peak Pulse (10/1000µs): 12A; Power - Peak Pulse: 600W; Power Line Protection: No; Supplier 1: Digi-Key; Manufacturer Part Number: P6SMB36A-E3/52; RoHS: RoHS Compliant; Category: Circuit Protection; Stock 1: 490; Pricing 1: 1=0.46, 10=0.346, 25=0.3116, 100=0.2153, 250=0.18128 (USD); Packaging: Cut Tape (CT); Part Status: Active; Bidirectional Channels: -; Applications: General Purpose; Capacitance @ Frequency: -; Operating Temperature: -65°C ~ 150°C (TJ); Mounting Type: Surface Mount; Package / Case: DO-214AA, SMB; Supplier Device Package: DO-214AA (SMB); ComponentLink1URL: http://www.vishay.com/docs/88370/p6smb.pdf; ComponentLink1Description: http://www.vishay.com/docs/88370/p6smb.pdf; Supplier Part Number 1: P6SMB36A-E3/52GICT-ND
footprint DO-214AA (JEDEC DO214 variation AA. SMB)
pins: 1, 2

## TVS DIODE 5.5VWM SOT143B
designator U?, comment PRTR5V0U2X,215 T  (value not drawn)
CI TVS DIODE; Manufacturer: NXP USA Inc.; Unidirectional Channels: 2; Voltage - Reverse Standoff (Typ): 5.5V (Max); Voltage - Breakdown (Min): 6V; Power Line Protection: Yes; Capacitance @ Frequency: 1pF @ 1MHz; Supplier 1: Digi-Key; Manufacturer Part Number: PRTR5V0U2X,215; RoHS: RoHS Compliant; Category: Circuit Protection; Stock 1: 16307; Pricing 1: 1=0.52, 10=0.447, 100=0.334, 500=0.2624, 1000=0.20276 (USD); Packaging: Cut Tape (CT); Part Status: Active; Type: Steering (Rail to Rail); Bidirectional Channels: -; Voltage - Clamping (Max) @ Ipp: -; Current - Peak Pulse (10/1000µs): -; Power - Peak Pulse: -; Applications: General Purpose; Operating Temperature: -40°C ~ 85°C (TA); Mounting Type: Surface Mount; Package / Case: TO-253-4, TO-253AA; Supplier Device Package: SOT-143B; ComponentLink1URL: http://www.nxp.com/documents/data_sheet/PRTR5V0U2X.pdf; ComponentLink1Description: http://www.nxp.com/documents/data_sheet/PRTR5V0U2X.pdf; Supplier Part Number 1: 568-4140-1-ND
footprint SOT143 (SOT143, 4-Leads, Body 2,92x2,30mm, Pitch 1,90mm, IPC Medium Density)
pins: 1 GND (power), 2, 3, 4 VCC (power)

## TVS DIODE BI 47.8VWM 77VC DO214AB
designator D?, comment 1.5SMC56CA
TVS DIODE 47.8VWM 77VC DO214AB; Manufacturer: Vishay Semiconductor Diodes Division; Manufacturer Part Number: 1.5SMC56CA-E3/57T; Type: Zener; Bidirectional Channels: 1; Voltage - Reverse Standoff (Typ): 47.8V; Voltage - Breakdown (Min): 53.2V; Voltage - Clamping (Max) @ Ipp: 77V; Current - Peak Pulse (10/1000µs): 19.5A; Power - Peak Pulse: 1500W (1.5kW); Power Line Protection: No; Supplier 1: Digi-Key; RoHS: RoHS Compliant; Category: Circuit Protection; Stock 1: 148; Pricing 1: 1=0.62, 10=0.544, 25=0.5108, 100=0.4169, 250=0.38728 (USD); Packaging: Cut Tape (CT); Part Status: Active; Unidirectional Channels: -; Applications: General Purpose; Capacitance @ Frequency: -; Operating Temperature: -65°C ~ 150°C (TJ); Mounting Type: Surface Mount; Package / Case: DO-214AB, SMC; Supplier Device Package: DO-214AB (SMCJ); ComponentLink1URL: http://www.vishay.com/docs/88303/15smcseries.pdf; ComponentLink1Description: http://www.vishay.com/docs/88303/15smcseries.pdf; Supplier Part Number 1: 1.5SMC56CA-E3/57TGICT-ND
footprint DO214-AB BIDIR (SMC)
pins: 1 A, 2 K

## TVS DIODE UNI 47.8VWM 77VC DO214AB
designator D?, comment 1.5SMC56A
TVS DIODE 47.8VWM 77VC DO214AB; Manufacturer: Vishay Semiconductor Diodes Division; Manufacturer Part Number: 1.5SMC56A-E3/57T; Type: Zener; Unidirectional Channels: 1; Voltage - Reverse Standoff (Typ): 47.8V; Voltage - Breakdown (Min): 53.2V; Voltage - Clamping (Max) @ Ipp: 77V; Current - Peak Pulse (10/1000µs): 19.5A; Power - Peak Pulse: 1500W (1.5kW); Power Line Protection: No; Supplier 1: Digi-Key; RoHS: RoHS Compliant; Category: Circuit Protection; Stock 1: 845; Pricing 1: 1=0.56, 10=0.483, 25=0.4508, 100=0.3605, 250=0.33476 (USD); Packaging: Cut Tape (CT); Part Status: Active; Bidirectional Channels: -; Applications: General Purpose; Capacitance @ Frequency: -; Operating Temperature: -65°C ~ 150°C (TJ); Mounting Type: Surface Mount; Package / Case: DO-214AB, SMC; Supplier Device Package: DO-214AB (SMCJ); ComponentLink1URL: http://www.vishay.com/docs/88303/15smcseries.pdf; ComponentLink1Description: http://www.vishay.com/docs/88303/15smcseries.pdf; Supplier Part Number 1: 1.5SMC56A-E3/57TGICT-ND
footprint DO214-AB (SMC)
pins: 1 A, 2 K